# Altium footprint library Header-6p.PcbLib: 1 footprints
Each footprint in its own frame and in the unit in brackets; x right, y up, seen from the top. Pads: shape width x height; smd on the part's side, far side on the other; paste and mask are expansions set on the pad; w line width, h text height; cw(c..) or ccw(c..) is an arc to the next point about the centre after c.
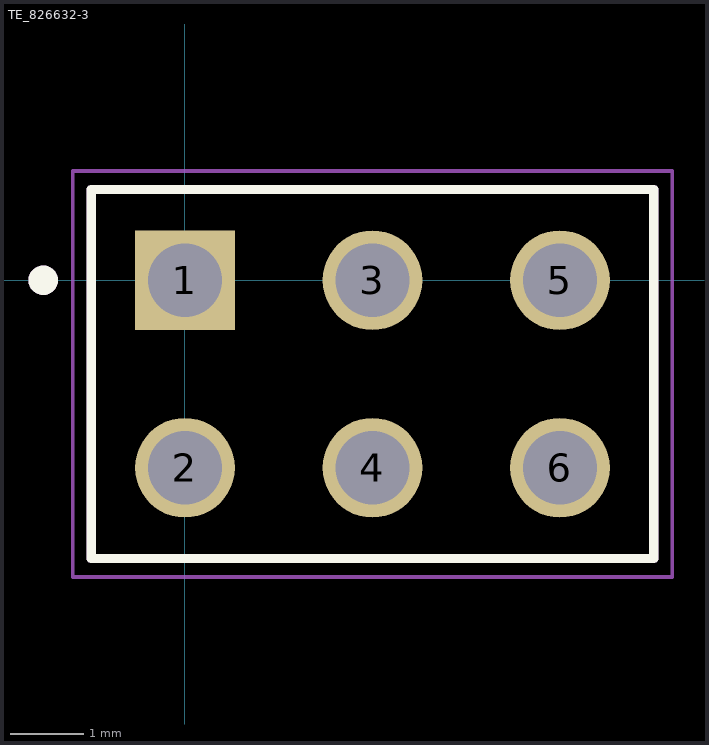
[diagram p0: the footprint, top view; thin cyan lines are the x and y axes]

## TE_826632-3 [mm]
pads (6):
  rect 1.35x1.35 hole 1: 1(0,0)
  round 1.35 hole 1: 2(0,-2.54) 3(2.54,0) 4(2.54,-2.54) 5(5.08,0) 6(5.08,-2.54)
Top Overlay:
  circle w0.2: c-1.92,0 r0.1
  lines w0.127: -1.27,-3.77 -1.27,1.23 6.35,1.23 6.35,-3.77 -1.27,-3.77
Mechanical 13:
  circle w0.2: c-1.92,0 r0.1
  lines w0.127: -1.27,-3.77 -1.27,1.23 6.35,1.23 6.35,-3.77 ; -1.27,-3.77 6.35,-3.77 ; -1.27,-3.77 6.35,-3.77
Mechanical 15:
  lines w0.05: -1.52,-4.02 -1.52,1.48 6.6,1.48 6.6,-4.02 -1.52,-4.02